# Altium schematic symbol library 15EDG.SchLib: 46 symbols (part 2 of 2)
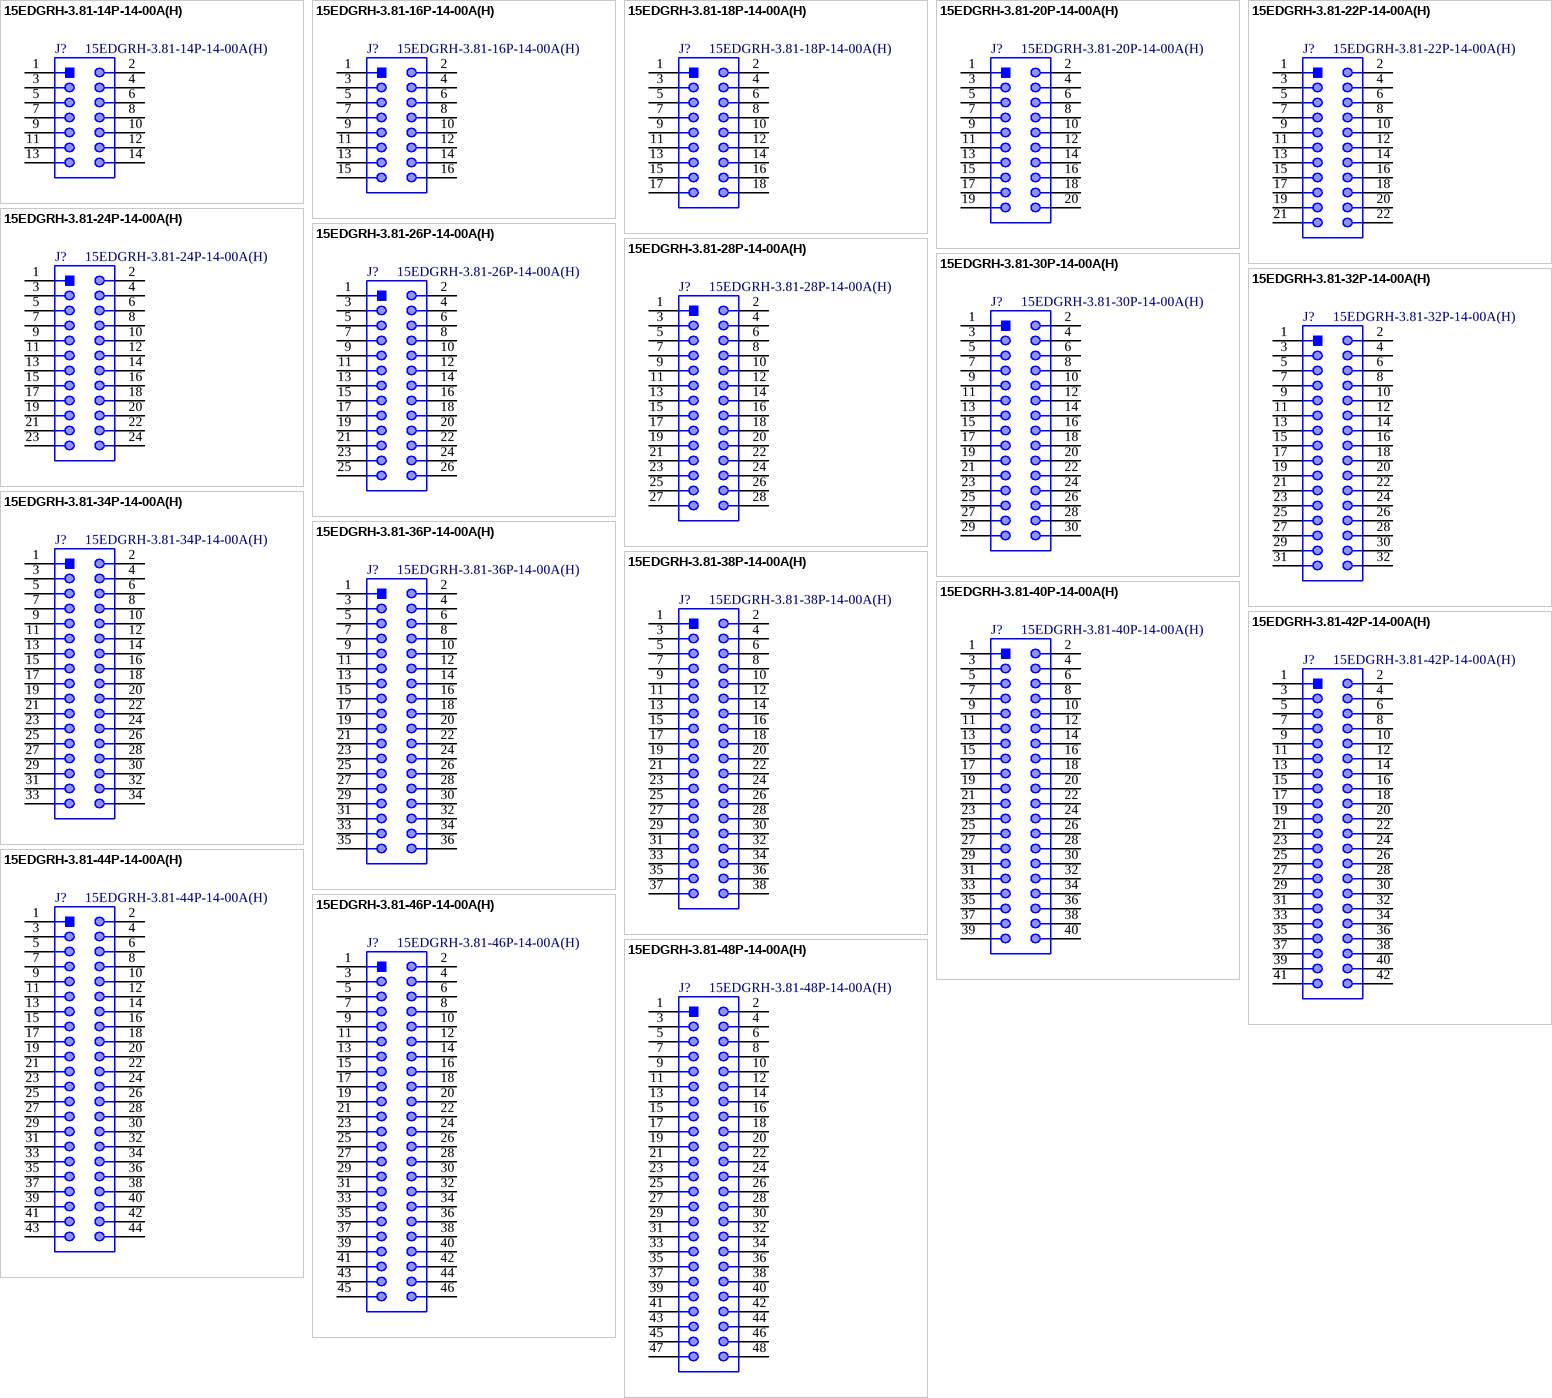
[diagram p2: symbols 15EDGRH-3.81-14P-14-00A(H) to 15EDGRH-3.81-48P-14-00A(H)]

## 15EDGRH-3.81-44P-14-00A(H)
designator J?
Pluggable Terminal Block, Double Level Horizontal, 2 x 22 Position, Pitch 3.81 mm, -40 to 105 degC, RoHS; Manufacturer: Degson Electronics; Poles: 44; Pitch: 3.81mm; Rated Current: 7A; Rated Voltage: 250V; No. of Rows: 2; Packing Unit: 100; Pin Arrangement: Double-row in a straight line; Type of Installation: PCB welding; ComponentLink1Description: Manufacturer; ComponentLink1URL: http://www.degson.com/; ComponentLink2URL: https://www.degson.com.cn/index.php?a=downloadFile&id=3864058&name=%27ZmlsZTQ=%27&lang=cn; ComponentLink2Description: Datasheet; Mounting Technology: Through Hole; Part Number: 15EDGRH-3.81-44P-14-00A(H); Operating Temperature: -40 to +105degC; Publisher: Bolgen Studio; Package Description: Terminal Block, Pitch 3.81 mm, 2 x 22 Position, Height 22.7 mm; Package Reference: 15EDGRH-3.81-44P-14-00A; Color: Green; Orientation: Horizontal; Datasheet Version: Rev. T2, 06/2020
footprint DGSN-15EDGRH-3.81-44P-14-00A_V (Terminal Block, 44-Pin, Body 85.06x21.80mm, Pitch 3.81mm)
pins: 1, 2, 3, 4, 5, 6, 7, 8, 9, 10, 11, 12, 13, 14, 15, 16, 17, 18, 19, 20, 21, 22, 23, 24, 25, 26, 27, 28, 29, 30, 31, 32, 33, 34, 35, 36, 37, 38, 39, 40, 41, 42, 43, 44

## 15EDGRH-3.81-46P-14-00A(H)
designator J?
Pluggable Terminal Block, Double Level Horizontal, 2 x 23 Position, Pitch 3.81 mm, -40 to 105 degC, RoHS; Manufacturer: Degson Electronics; Poles: 46; Pitch: 3.81mm; Rated Current: 7A; Rated Voltage: 250V; No. of Rows: 2; Packing Unit: 100; Pin Arrangement: Double-row in a straight line; Type of Installation: PCB welding; ComponentLink1Description: Manufacturer; ComponentLink1URL: http://www.degson.com/; ComponentLink2URL: https://www.degson.com.cn/index.php?a=downloadFile&id=3864058&name=%27ZmlsZTQ=%27&lang=cn; ComponentLink2Description: Datasheet; Mounting Technology: Through Hole; Part Number: 15EDGRH-3.81-46P-14-00A(H); Operating Temperature: -40 to +105degC; Publisher: Bolgen Studio; Package Description: Terminal Block, Pitch 3.81 mm, 2 x 23 Position, Height 22.7 mm; Package Reference: 15EDGRH-3.81-46P-14-00A; Color: Green; Orientation: Horizontal; Datasheet Version: Rev. T2, 06/2020
footprint DGSN-15EDGRH-3.81-46P-14-00A_V (Terminal Block, 46-Pin, Body 88.87x21.80mm, Pitch 3.81mm)
pins: 1, 2, 3, 4, 5, 6, 7, 8, 9, 10, 11, 12, 13, 14, 15, 16, 17, 18, 19, 20, 21, 22, 23, 24, 25, 26, 27, 28, 29, 30, 31, 32, 33, 34, 35, 36, 37, 38, 39, 40, 41, 42, 43, 44, 45, 46

## 15EDGRH-3.81-48P-14-00A(H)
designator J?
Pluggable Terminal Block, Double Level Horizontal, 2 x 24 Position, Pitch 3.81 mm, -40 to 105 degC, RoHS; Manufacturer: Degson Electronics; Poles: 48; Pitch: 3.81mm; Rated Current: 7A; Rated Voltage: 250V; No. of Rows: 2; Packing Unit: 100; Pin Arrangement: Double-row in a straight line; Type of Installation: PCB welding; ComponentLink1Description: Manufacturer; ComponentLink1URL: http://www.degson.com/; ComponentLink2URL: https://www.degson.com.cn/index.php?a=downloadFile&id=3864058&name=%27ZmlsZTQ=%27&lang=cn; ComponentLink2Description: Datasheet; Mounting Technology: Through Hole; Part Number: 15EDGRH-3.81-48P-14-00A(H); Operating Temperature: -40 to +105degC; Publisher: Bolgen Studio; Package Description: Terminal Block, Pitch 3.81 mm, 2 x 24 Position, Height 22.7 mm; Package Reference: 15EDGRH-3.81-48P-14-00A; Color: Green; Orientation: Horizontal; Datasheet Version: Rev. T2, 06/2020
footprint DGSN-15EDGRH-3.81-48P-14-00A_V (Terminal Block, 48-Pin, Body 92.68x21.80mm, Pitch 3.81mm)
pins: 1, 2, 3, 4, 5, 6, 7, 8, 9, 10, 11, 12, 13, 14, 15, 16, 17, 18, 19, 20, 21, 22, 23, 24, 25, 26, 27, 28, 29, 30, 31, 32, 33, 34, 35, 36, 37, 38, 39, 40, 41, 42, 43, 44, 45, 46, 47, 48